# Altium integrated library LTV-356T.IntLib: 1 symbol
Pins are listed as number, name and electrical type; pins without a type are passive.

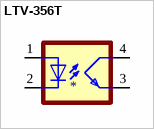
[diagram p0: symbol LTV-356T]

## LTV-356T
designator ?
Optoisolator Transistor Output 3750Vrms 1 Channel 4-SOP; MF: Lite-On Inc.; MP: LTV-356T; Package: SOP-4 Lite-On Inc.; Availability: Unavailable; Value: *; Price: None; SnapEDA_Link: https://www.snapeda.com/parts/LTV-356T/Lite-On%20Inc./view-part/448527/?ref=snap
footprint MINI-FLAT-4
pins: 1 A, 2 C, 3 EMIT, 4 COL